# Altium schematic symbol library 5557 connector.SchLib: 1 symbol
Pins are listed as number, name and electrical type; pins without a type are passive.

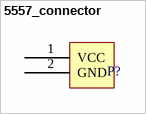
[diagram p0: symbol 5557_connector]

## 5557_connector
designator P?, comment 5557 Connector  (value not drawn)
footprint 5557_connector (Footprint not found)
pins: 1 VCC, 2 GND